# Altium footprint library TexasInstruments.PcbLib: 1 footprints
Each footprint in its own frame and in the unit in brackets; x right, y up, seen from the top. Pads: shape width x height; smd on the part's side, far side on the other; paste and mask are expansions set on the pad; w line width, h text height; cw(c..) or ccw(c..) is an arc to the next point about the centre after c.
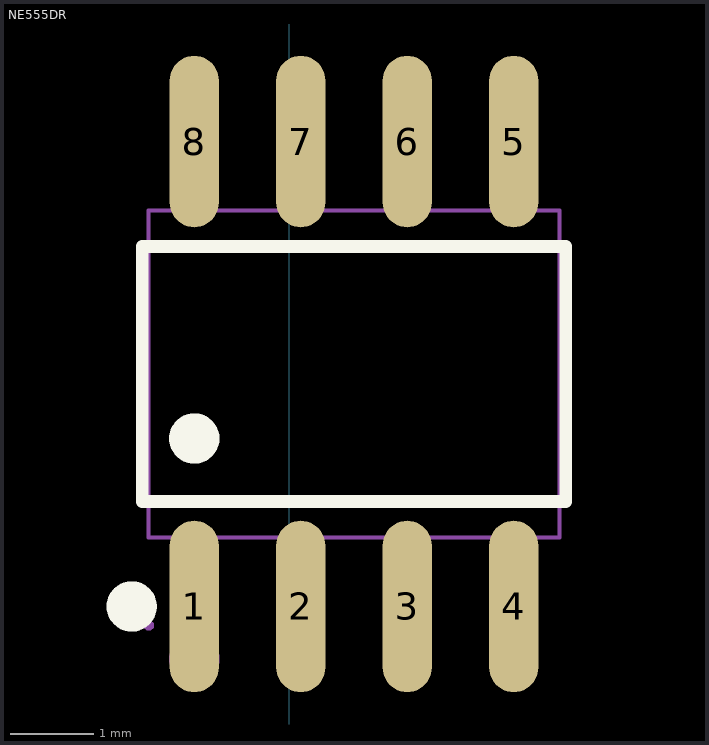
[diagram p0: the footprint, top view; thin cyan lines are the x and y axes]

## NE555DR [mm]
pads (8):
  oval 0.588x2.045 smd: 1(-1.135,-7.105) 2(0.135,-7.105) 3(1.405,-7.105) 4(2.675,-7.105) 5(2.675,-1.561) 6(1.405,-1.561) 7(0.135,-1.561) 8(-1.135,-1.561)
Top Overlay:
  circle w0.3: c-1.135,-5.102 r0.15
  circle w0.3: c-1.882,-7.105 r0.15
  lines w0.152: -1.757,-5.854 -1.757,-2.812 3.296,-2.812 3.296,-5.854 -1.757,-5.854
Mechanical 6:
  circle w0.3: c-1.135,-7.733 r0.15
Mechanical 15:
  region: -1.62,-7.333 -1.621,-7.309 -1.656,-7.274 -1.705,-7.274 -1.74,-7.309 -1.74,-7.333 -1.74,-7.357 -1.705,-7.392 -1.656,-7.392 -1.621,-7.358 -1.62,-7.333
  region: -1.345,-7.333 -1.345,-6.498 -0.925,-6.498 -0.925,-7.333
  region: -1.345,-6.508 -1.345,-6.273 -0.925,-6.273 -0.925,-6.508
  region: -0.075,-7.333 -0.075,-6.498 0.345,-6.498 0.345,-7.333
  region: -0.075,-6.508 -0.075,-6.273 0.345,-6.273 0.345,-6.508
  region: 1.195,-7.333 1.195,-6.498 1.615,-6.498 1.615,-7.333
  region: 1.195,-6.508 1.195,-6.273 1.615,-6.273 1.615,-6.508
  region: 2.465,-7.333 2.465,-6.498 2.885,-6.498 2.885,-7.333
  region: 2.465,-6.508 2.465,-6.273 2.885,-6.273 2.885,-6.508
  region: -1.345,-1.333 -1.345,-2.168 -0.925,-2.168 -0.925,-1.333
  region: -1.345,-2.158 -1.345,-2.393 -0.925,-2.393 -0.925,-2.158
  region: -0.075,-1.333 -0.075,-2.168 0.345,-2.168 0.345,-1.333
  region: -0.075,-2.158 -0.075,-2.393 0.345,-2.393 0.345,-2.158
  region: 1.195,-1.333 1.195,-2.168 1.615,-2.168 1.615,-1.333
  region: 1.195,-2.158 1.195,-2.393 1.615,-2.393 1.615,-2.158
  region: 2.465,-1.333 2.465,-2.168 2.885,-2.168 2.885,-1.333
  region: 2.465,-2.158 2.465,-2.393 2.885,-2.393 2.885,-2.158
  lines w0.051: -1.68,-6.283 -1.68,-2.383 3.22,-2.383 3.22,-6.283 -1.68,-6.283